# Altium footprint library Capacitors-PTH-Ceramic.PcbLib: 1 footprints
Each footprint in its own frame and in the unit in brackets; x right, y up, seen from the top. Pads: shape width x height; smd on the part's side, far side on the other; paste and mask are expansions set on the pad; w line width, h text height; cw(c..) or ccw(c..) is an arc to the next point about the centre after c.
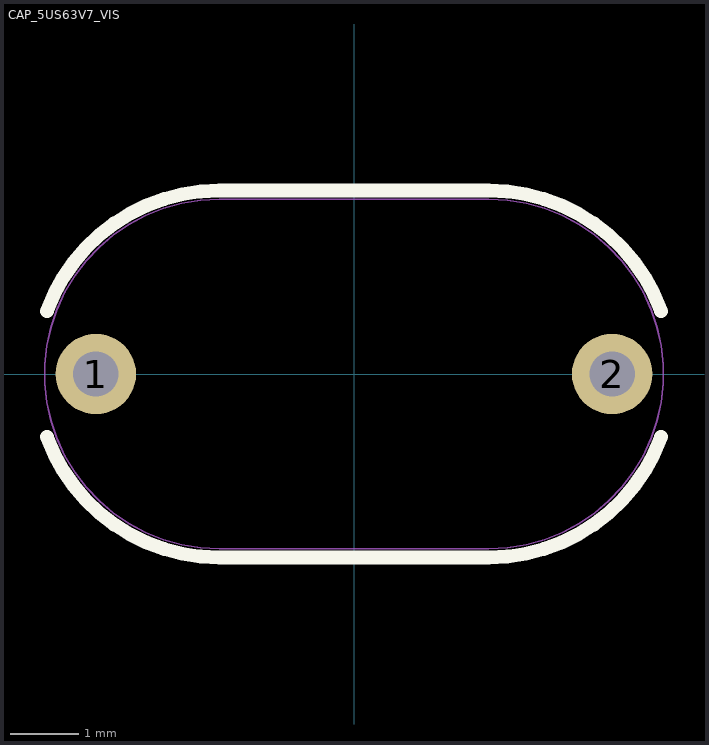
[diagram p0: the footprint, top view; thin cyan lines are the x and y axes]

## CAP_5US63V7_VIS [mil]
pads (2):
  round 46 hole 26 paste-99999 mask+0: 1(-147.64,0) 2(147.64,0)
Top Overlay:
  lines w7.87: -175.67,-35.91 ccw(c-77,0) -77,-105 77,-105 ccw(c77,0) 175.67,-35.91 ; -175.67,35.91 cw(c-77,0) -77,105 77,105 cw(c77,0) 175.67,35.91
Mechanical 13:
  lines w1: -77,-100 cw(c-77,0) -77,100 77,100 cw(c77,0) 77,-100 -77,-100
3D body "VY2222M35Y5US63V7.STEP": height 472.44, standoff -1377.95, extent -177.17,-98.35 177.17,98.35